# EAGLE library part TSW-D-06_S (library con-samtec-tsw)
HEADER
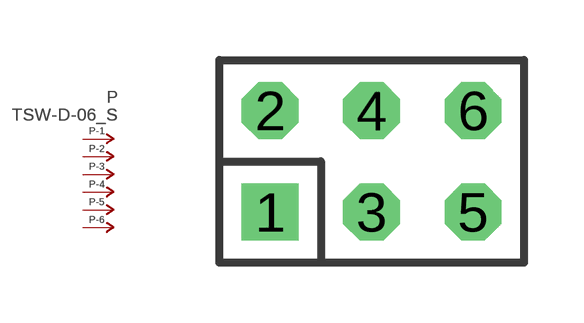
[diagram p138: symbol with the pads of TSW-D-06; footprint TSW-D-06]

Designator prefix P; gates -1=P-NV -2=P-N -3=P-N -4=P-N -5=P-N -6=P-N

## TSW-D-06_S  [TSW-D-06]
1  -1:P  pas
2  -2:P  pas
3  -3:P  pas
4  -4:P  pas
5  -5:P  pas
6  -6:P  pas

## Footprint TSW-D-06 (pad centres in mm)
HEADER
drill 0.914 square: 1 -2.54,-1.27
drill 0.914 octagon: 2 -2.54,1.27; 3 0,-1.27; 4 0,1.27; 5 2.54,-1.27; 6 2.54,1.27